# Altium schematic symbol library LM5107MAX_NOPB.SchLib: 1 symbol
Pins are listed as number, name and electrical type; pins without a type are passive.

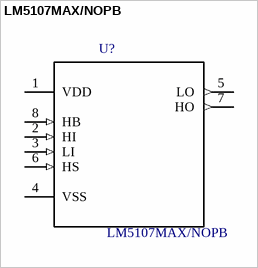
[diagram p0: symbol LM5107MAX/NOPB]

## LM5107MAX/NOPB
designator U?
MOSFET DRVR 1.4A 2-OUT Hi/Lo Side Full Brdg/Half Brdg Non-Inv 8-Pin SOIC N T/R; MF: Texas Instruments; Digi-Key_Part_Number: LM5107MAX/NOPBCT-ND; MP: LM5107MAX/NOPB; Package: None; Digi-Key_Purchase_URL: https://www.digikey.ca/product-detail/en/texas-instruments/LM5107MAX-NOPB/LM5107MAX-NOPBCT-ND/3527005?WT.z_cid=ref_snapeda; Value: *
footprint SOIC127P620X175-8N
pins: 1 VDD (power), 2 HI (in), 3 LI (in), 4 VSS (power), 5 LO (out), 6 HS (in), 7 HO (out), 8 HB (in)